# Altium schematic symbol library CAT3200TDI-T3.SchLib: 1 symbol
Pins are listed as number, name and electrical type; pins without a type are passive.

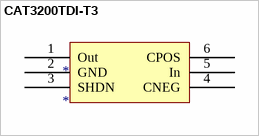
[diagram p0: symbol CAT3200TDI-T3]

## CAT3200TDI-T3
designator *
pins: 1 Out, 2 GND, 3 SHDN, 4 CNEG, 5 In, 6 CPOS